# Altium integrated library NSC ADC.IntLib: 493 symbols (part 8 of 17)
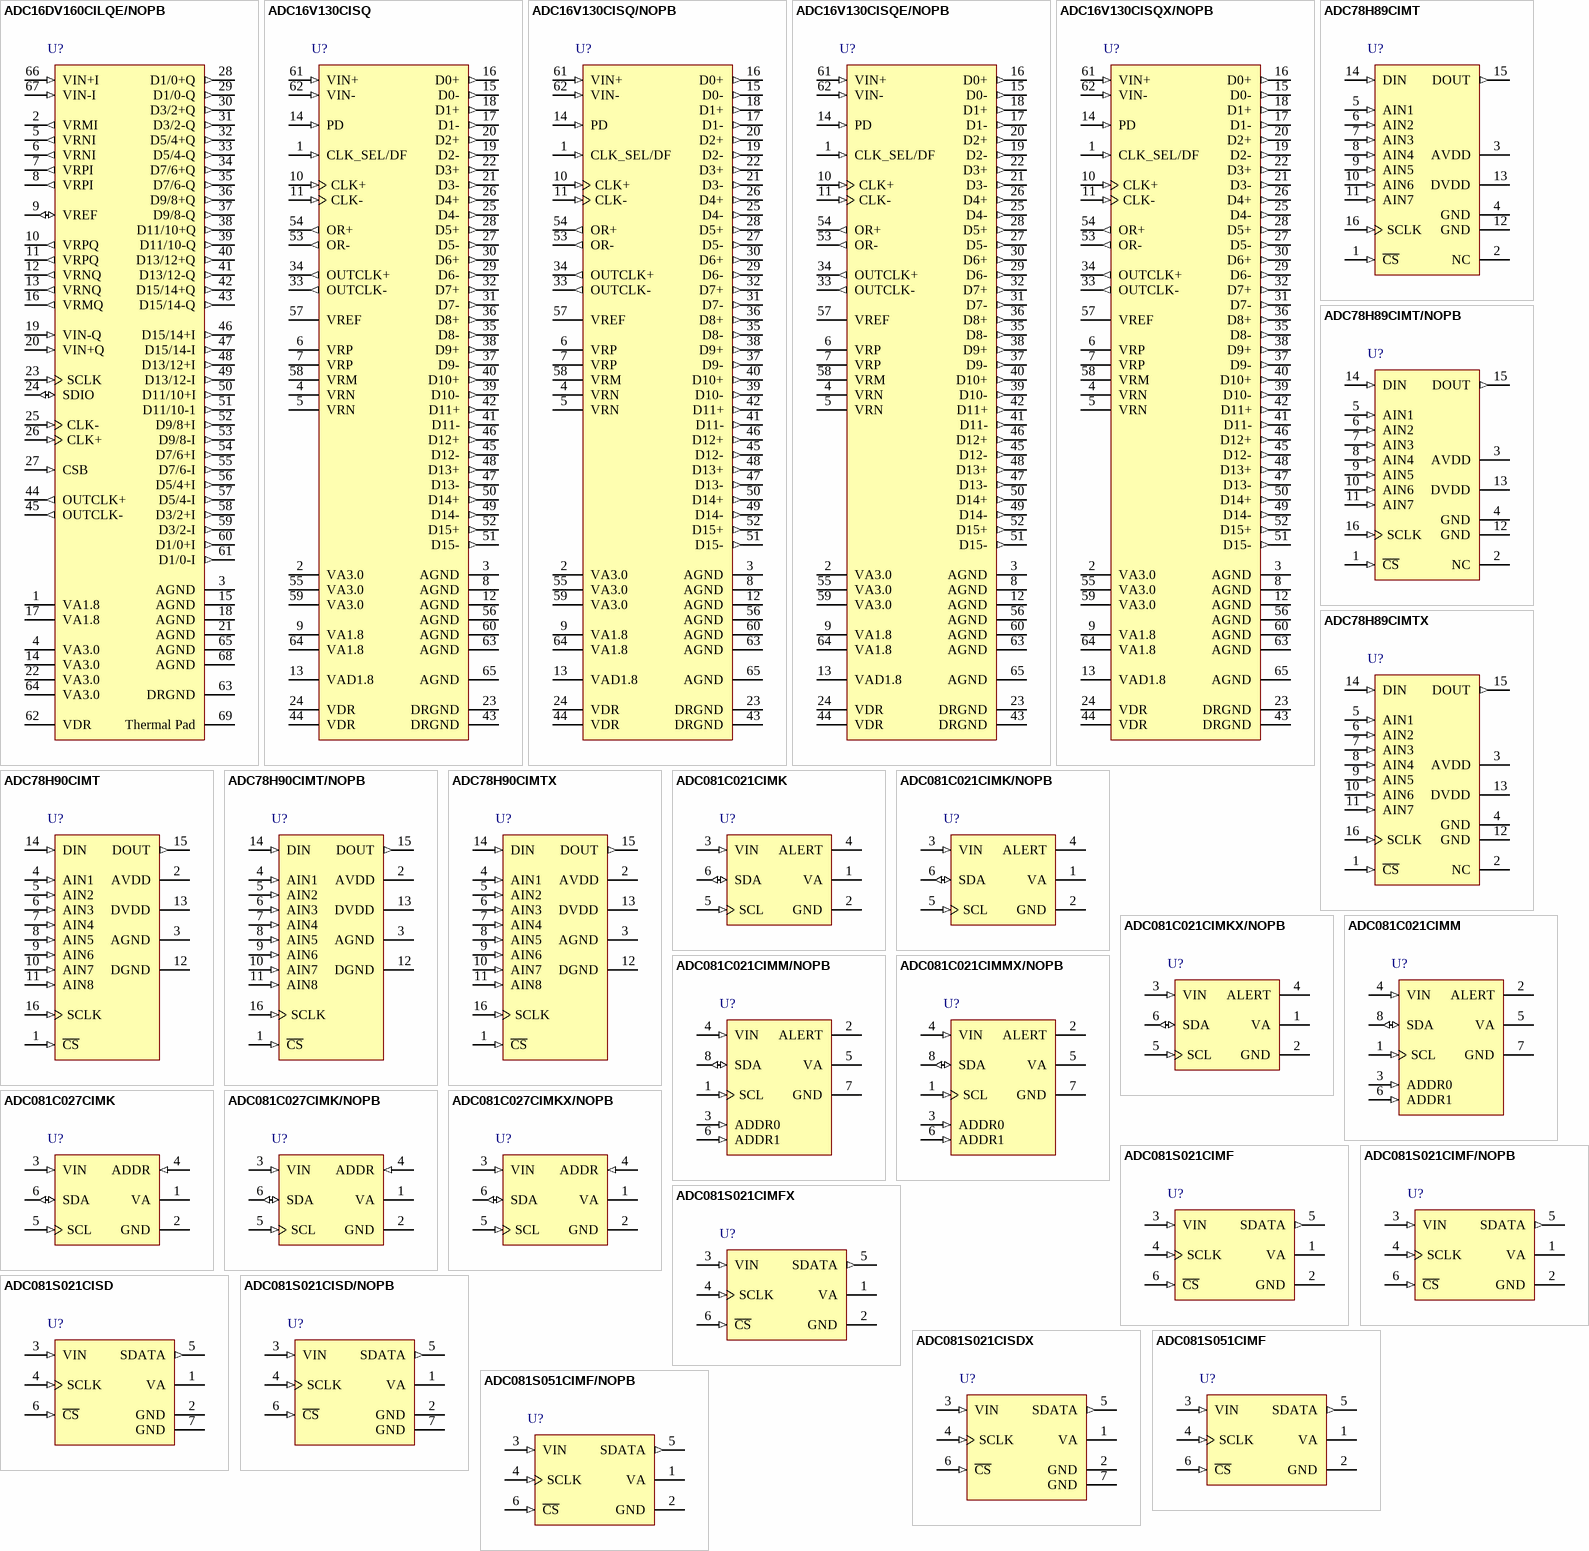
[diagram p43: symbols ADC16DV160CILQE/NOPB to ADC081S051CIMF/NOPB]

## ADC081C021CIMM/NOPB
designator U?
I2C-Compatible, 8-Bit Analog-to-Digital Converter with Alert Pin, 8-pin Mini SOIC, Pb-Free; PartNumber: ADC081C021CIMM/NOPB; Manufacturer: National Semiconductor; PackageTopMarking: ZXTT*X36C; PowerWise: N; CompType: ADC IC; Published: 1-Mar-2010; DatasheetVersion: Feb-2009; PackageVersion: revF, Apr-2008; PackageReference: MUA08A; Publisher: Altium Limited; PackageDescription: MINI SOIC, .118 x .118 x .034in, 8 Lead, .0256in Pitch; Supplier 1: Digi-Key; Supplier Part Number 1: ADC081C021CIMMTR-ND; Supplier 2: Digi-Key; Supplier Part Number 2: ADC081C021CIMMCT-ND; Supplier 3: Digi-Key; Supplier Part Number 3: ADC081C021CIMMDKR-ND; RoHS: Y; PinCount: 8; Code_JEDEC: MO-187-AA; ComponentLink1Description: ADC081C021 Datasheet; ComponentLink1URL: http://www.national.com/ds/AD/ADC081C021.pdf; ComponentLink2Description: ADC081C021 Web Page; ComponentLink2URL: http://www.national.com/pf/AD/ADC081C021.html; ComponentLink3Description: MUA08A Package Page; ComponentLink3URL: http://www.national.com/packaging/folders/mua08a.html
footprint MUA08A_N (TSOP, 8-Leads, Body 3x3mm, Pitch 0.65mm, IPC Medium Density)
footprint MUA08A_L (TSOP, 8-Leads, Body 3x3mm, Pitch 0.65mm, IPC High Density)
footprint MUA08A_M (TSOP, 8-Leads, Body 3x3mm, Pitch 0.65mm, IPC Low Density)
pins: 1 SCL (in), 2 ALERT (oc), 3 ADDR0 (in), 4 VIN (in), 5 VA (power), 6 ADDR1 (in), 7 GND (power), 8 SDA (io)

## ADC081C021CIMMX/NOPB
designator U?
I2C-Compatible, 8-Bit Analog-to-Digital Converter with Alert Pin, 8-pin Mini SOIC, Pb-Free; PartNumber: ADC081C021CIMMX/NOPB; Manufacturer: National Semiconductor; PackageTopMarking: ZXTT*X36C; PowerWise: N; CompType: ADC IC; Published: 1-Mar-2010; DatasheetVersion: Feb-2009; PackageVersion: revF, Apr-2008; PackageReference: MUA08A; Publisher: Altium Limited; PackageDescription: MINI SOIC, .118 x .118 x .034in, 8 Lead, .0256in Pitch; Supplier 1: Digi-Key; Supplier Part Number 1: ADC081C021CIMMX-ND; RoHS: Y; PinCount: 8; Code_JEDEC: MO-187-AA; ComponentLink1Description: ADC081C021 Datasheet; ComponentLink1URL: http://www.national.com/ds/AD/ADC081C021.pdf; ComponentLink2Description: ADC081C021 Web Page; ComponentLink2URL: http://www.national.com/pf/AD/ADC081C021.html; ComponentLink3Description: MUA08A Package Page; ComponentLink3URL: http://www.national.com/packaging/folders/mua08a.html
footprint MUA08A_N (TSOP, 8-Leads, Body 3x3mm, Pitch 0.65mm, IPC Medium Density)
footprint MUA08A_L (TSOP, 8-Leads, Body 3x3mm, Pitch 0.65mm, IPC High Density)
footprint MUA08A_M (TSOP, 8-Leads, Body 3x3mm, Pitch 0.65mm, IPC Low Density)
pins: 1 SCL (in), 2 ALERT (oc), 3 ADDR0 (in), 4 VIN (in), 5 VA (power), 6 ADDR1 (in), 7 GND (power), 8 SDA (io)

## ADC081C027CIMK
designator U?
I2C-Compatible, 8-Bit Analog-to-Digital Converter (ADC) with Alert Function, 6-pin Tiny SOT23; PartNumber: ADC081C027CIMK; Manufacturer: National Semiconductor; PackageTopMarking: X35C*XTT; PowerWise: N; CompType: ADC IC; Published: 4-Dec-2008; DatasheetVersion: Feb-2008; PackageVersion: revE, Nov-2008; PackageReference: MK06A; Publisher: Altium Limited; PackageDescription: Molded TSOT, 2.97 x 1.65 x 0.87mm Body, 6 Lead, 0.95mm Pitch; RoHS: Y; PinCount: 6; Code_JEDEC: MO-193-AA; Code_IPC: SOT26A-6; ComponentLink1Description: ADC081C027 Datasheet; ComponentLink1URL: http://www.national.com/ds/AD/ADC081C027.pdf; ComponentLink2Description: ADC081C027 Web Page; ComponentLink2URL: http://www.national.com/pf/AD/ADC081C027.html; ComponentLink3Description: MK06A Package Page; ComponentLink3URL: http://www.national.com/packaging/folders/mk06a.html
footprint MK06A_N (SOT23, 6-Leads, Body 3.0x1.7mm, Pitch 0.95mm, Lead Span 2.9mm, IPC Medium Density)
footprint MK06A_L (SOT23, 6-Leads, Body 3.0x1.7mm, Pitch 0.95mm, Lead Span 2.9mm, IPC High Density)
footprint MK06A_M (SOT23, 6-Leads, Body 3.0x1.7mm, Pitch 0.95mm, Lead Span 2.9mm, IPC Low Density)
pins: 1 VA (power), 2 GND (power), 3 VIN (in), 4 ADDR (in), 5 SCL (in), 6 SDA (io)

## ADC081C027CIMK/NOPB
designator U?
I2C-Compatible, 8-Bit Analog-to-Digital Converter with Alert Function, 6-pin Tiny SOT23, Pb-Free; PartNumber: ADC081C027CIMK/NOPB; Manufacturer: National Semiconductor; PackageTopMarking: X35C*XTT; PowerWise: N; CompType: ADC IC; Published: 1-Mar-2010; DatasheetVersion: Feb-2008; PackageVersion: revE, Nov-2008; PackageReference: MK06A; Publisher: Altium Limited; PackageDescription: Molded TSOT, 2.97 x 1.65 x 0.87mm Body, 6 Lead, 0.95mm Pitch; Supplier 1: Digi-Key; Supplier Part Number 1: ADC081C027CIMKTR-ND; Supplier 2: Digi-Key; Supplier Part Number 2: ADC081C027CIMKCT-ND; Supplier 3: Digi-Key; Supplier Part Number 3: ADC081C027CIMKDKR-ND; Supplier 4: Farnell; Supplier Part Number 4: 1674011; RoHS: Y; PinCount: 6; Code_JEDEC: MO-193-AA; Code_IPC: SOT26A-6; ComponentLink1Description: ADC081C027 Datasheet; ComponentLink1URL: http://www.national.com/ds/AD/ADC081C027.pdf; ComponentLink2Description: ADC081C027 Web Page; ComponentLink2URL: http://www.national.com/pf/AD/ADC081C027.html; ComponentLink3Description: MK06A Package Page; ComponentLink3URL: http://www.national.com/packaging/folders/mk06a.html
footprint MK06A_N (SOT23, 6-Leads, Body 3.0x1.7mm, Pitch 0.95mm, Lead Span 2.9mm, IPC Medium Density)
footprint MK06A_L (SOT23, 6-Leads, Body 3.0x1.7mm, Pitch 0.95mm, Lead Span 2.9mm, IPC High Density)
footprint MK06A_M (SOT23, 6-Leads, Body 3.0x1.7mm, Pitch 0.95mm, Lead Span 2.9mm, IPC Low Density)
pins: 1 VA (power), 2 GND (power), 3 VIN (in), 4 ADDR (in), 5 SCL (in), 6 SDA (io)

## ADC081C027CIMKX/NOPB
designator U?
I2C-Compatible, 8-Bit Analog-to-Digital Converter with Alert Function, 6-pin Tiny SOT23, Pb-Free; PartNumber: ADC081C027CIMKX/NOPB; Manufacturer: National Semiconductor; PackageTopMarking: X35C*XTT; PowerWise: N; CompType: ADC IC; Published: 1-Mar-2010; DatasheetVersion: Feb-2008; PackageVersion: revE, Nov-2008; PackageReference: MK06A; Publisher: Altium Limited; PackageDescription: Molded TSOT, 2.97 x 1.65 x 0.87mm Body, 6 Lead, 0.95mm Pitch; Supplier 1: Digi-Key; Supplier Part Number 1: ADC081C027CIMKX-ND; RoHS: Y; PinCount: 6; Code_JEDEC: MO-193-AA; Code_IPC: SOT26A-6; ComponentLink1Description: ADC081C027 Datasheet; ComponentLink1URL: http://www.national.com/ds/AD/ADC081C027.pdf; ComponentLink2Description: ADC081C027 Web Page; ComponentLink2URL: http://www.national.com/pf/AD/ADC081C027.html; ComponentLink3Description: MK06A Package Page; ComponentLink3URL: http://www.national.com/packaging/folders/mk06a.html
footprint MK06A_N (SOT23, 6-Leads, Body 3.0x1.7mm, Pitch 0.95mm, Lead Span 2.9mm, IPC Medium Density)
footprint MK06A_L (SOT23, 6-Leads, Body 3.0x1.7mm, Pitch 0.95mm, Lead Span 2.9mm, IPC High Density)
footprint MK06A_M (SOT23, 6-Leads, Body 3.0x1.7mm, Pitch 0.95mm, Lead Span 2.9mm, IPC Low Density)
pins: 1 VA (power), 2 GND (power), 3 VIN (in), 4 ADDR (in), 5 SCL (in), 6 SDA (io)

## ADC081S021CIMF
designator U?
Single Channel, 50 to 200 kSPS, 8-Bit A/D Converter, 6-pin SOT-23; PartNumber: ADC081S021CIMF; Manufacturer: National Semiconductor; PackageTopMarking: X09C*XTT; PowerWise: Y; CompType: ADC IC; Published: 4-Dec-2008; DatasheetVersion: Jan-2010; PackageVersion: revC, Sep-2005; PackageReference: MF06A; Publisher: Altium Limited; PackageDescription: Molded SOT-23, .115 x .063 x .040in Body, 6 Lead, .0375in in Pitch; Supplier 1: Farnell; Supplier Part Number 1: 1250030; RoHS: N; PinCount: 6; Code_JEDEC: MO-178-AB; Code_IPC: SOT26A-6; ComponentLink1Description: ADC081S021 Datasheet; ComponentLink1URL: http://www.national.com/ds/AD/ADC081S021.pdf; ComponentLink2Description: ADC081S021 Web Page; ComponentLink2URL: http://www.national.com/pf/AD/ADC081S021.html; ComponentLink3Description: MF06A Package Page; ComponentLink3URL: http://www.national.com/packaging/folders/mf06a.html
footprint MF06A_N (SOT23, 6-Leads, Body 2.9x1.6mm, Pitch 0.95mm, Lead Span 2.8mm, IPC Medium Density)
footprint MF06A_L (SOT23, 6-Leads, Body 2.9x1.6mm, Pitch 0.95mm, Lead Span 2.8mm, IPC High Density)
footprint MF06A_M (SOT23, 6-Leads, Body 2.9x1.6mm, Pitch 0.95mm, Lead Span 2.8mm, IPC Low Density)
pins: 1 VA (power), 2 GND (power), 3 VIN (in), 4 SCLK (in), 5 SDATA (out), 6 ~{CS} (in)

## ADC081S021CIMF/NOPB
designator U?
Single Channel, 50 to 200 kSPS, 8-Bit A/D Converter, 6-pin SOT-23, Pb-Free; PartNumber: ADC081S021CIMF/NOPB; Manufacturer: National Semiconductor; PackageTopMarking: X09C*XTT; PowerWise: Y; CompType: ADC IC; Published: 1-Mar-2010; DatasheetVersion: Jan-2010; PackageVersion: revC, Sep-2005; PackageReference: MF06A; Publisher: Altium Limited; PackageDescription: Molded SOT-23, .115 x .063 x .040in Body, 6 Lead, .0375in in Pitch; Supplier 1: Digi-Key; Supplier Part Number 1: ADC081S021CIMFTR-ND; Supplier 2: Digi-Key; Supplier Part Number 2: ADC081S021CIMFCT-ND; Supplier 3: Digi-Key; Supplier Part Number 3: ADC081S021CIMFDKR-ND; Supplier 4: Farnell; Supplier Part Number 4: 1559761; RoHS: Y; PinCount: 6; Code_JEDEC: MO-178-AB; Code_IPC: SOT26A-6; ComponentLink1Description: ADC081S021 Datasheet; ComponentLink1URL: http://www.national.com/ds/AD/ADC081S021.pdf; ComponentLink2Description: ADC081S021 Web Page; ComponentLink2URL: http://www.national.com/pf/AD/ADC081S021.html; ComponentLink3Description: MF06A Package Page; ComponentLink3URL: http://www.national.com/packaging/folders/mf06a.html
footprint MF06A_N (SOT23, 6-Leads, Body 2.9x1.6mm, Pitch 0.95mm, Lead Span 2.8mm, IPC Medium Density)
footprint MF06A_L (SOT23, 6-Leads, Body 2.9x1.6mm, Pitch 0.95mm, Lead Span 2.8mm, IPC High Density)
footprint MF06A_M (SOT23, 6-Leads, Body 2.9x1.6mm, Pitch 0.95mm, Lead Span 2.8mm, IPC Low Density)
pins: 1 VA (power), 2 GND (power), 3 VIN (in), 4 SCLK (in), 5 SDATA (out), 6 ~{CS} (in)

## ADC081S021CIMFX
designator U?
Single Channel, 50 to 200 kSPS, 8-Bit A/D Converter, 6-pin SOT-23; PartNumber: ADC081S021CIMFX; Manufacturer: National Semiconductor; PackageTopMarking: X09C*XTT; PowerWise: Y; CompType: ADC IC; Published: 1-Mar-2010; DatasheetVersion: Jan-2010; PackageVersion: revC, Sep-2005; PackageReference: MF06A; Publisher: Altium Limited; PackageDescription: Molded SOT-23, .115 x .063 x .040in Body, 6 Lead, .0375in in Pitch; RoHS: N; PinCount: 6; Code_JEDEC: MO-178-AB; Code_IPC: SOT26A-6; ComponentLink1Description: ADC081S021 Datasheet; ComponentLink1URL: http://www.national.com/ds/AD/ADC081S021.pdf; ComponentLink2Description: ADC081S021 Web Page; ComponentLink2URL: http://www.national.com/pf/AD/ADC081S021.html; ComponentLink3Description: MF06A Package Page; ComponentLink3URL: http://www.national.com/packaging/folders/mf06a.html
footprint MF06A_N (SOT23, 6-Leads, Body 2.9x1.6mm, Pitch 0.95mm, Lead Span 2.8mm, IPC Medium Density)
footprint MF06A_L (SOT23, 6-Leads, Body 2.9x1.6mm, Pitch 0.95mm, Lead Span 2.8mm, IPC High Density)
footprint MF06A_M (SOT23, 6-Leads, Body 2.9x1.6mm, Pitch 0.95mm, Lead Span 2.8mm, IPC Low Density)
pins: 1 VA (power), 2 GND (power), 3 VIN (in), 4 SCLK (in), 5 SDATA (out), 6 ~{CS} (in)

## ADC081S021CISD
designator U?
Single Channel, 50 to 200 kSPS, 8-Bit A/D Converter, 7-pin LLP; PartNumber: ADC081S021CISD; Manufacturer: National Semiconductor; PackageTopMarking: XTT*X9C; PowerWise: Y; CompType: ADC IC; Published: 4-Dec-2008; DatasheetVersion: Jan-2010; PackageVersion: revA, Nov-2003; PackageReference: SDB06A; Publisher: Altium Limited; PackageDescription: LLP, Plastic, Dual, 2.2 x 2.5 x 0.8mm Body, 6 Lead, 0.65mm Pitch, No Pullback; Supplier 1: Farnell; Supplier Part Number 1: 1312525; RoHS: N; PinCount: 6; ComponentLink1Description: ADC081S021 Datasheet; ComponentLink1URL: http://www.national.com/ds/AD/ADC081S021.pdf; ComponentLink2Description: ADC081S021 Web Page; ComponentLink2URL: http://www.national.com/pf/AD/ADC081S021.html; ComponentLink3Description: SDB06A Package Page; ComponentLink3URL: http://www.national.com/packaging/folders/sdb06a.html
footprint SDB06A (SON, 6-Leads, Body 2.2x2.5mm, Pitch 0.65mm, NSC Recommended (SC-70 Land))
pins: 1 VA (power), 2 GND (power), 3 VIN (in), 4 SCLK (in), 5 SDATA (out), 6 ~{CS} (in), 7 GND (power)

## ADC081S021CISD/NOPB
designator U?
Single Channel, 50 to 200 kSPS, 8-Bit A/D Converter, 6-pin LLP, Pb-Free; PartNumber: ADC081S021CISD/NOPB; Manufacturer: National Semiconductor; PackageTopMarking: XTT*X9C; PowerWise: Y; CompType: ADC IC; Published: 1-Mar-2010; DatasheetVersion: Jan-2010; PackageVersion: revA, Nov-2003; PackageReference: SDB06A; Publisher: Altium Limited; PackageDescription: LLP, Plastic, Dual, 2.2 x 2.5 x 0.8mm Body, 6 Lead, 0.65mm Pitch, No Pullback; Supplier 1: Digi-Key; Supplier Part Number 1: ADC081S021CISDTR-ND; Supplier 2: Digi-Key; Supplier Part Number 2: ADC081S021CISDCT-ND; Supplier 3: Digi-Key; Supplier Part Number 3: ADC081S021CISDDKR-ND; RoHS: Y; PinCount: 6; ComponentLink1Description: ADC081S021 Datasheet; ComponentLink1URL: http://www.national.com/ds/AD/ADC081S021.pdf; ComponentLink2Description: ADC081S021 Web Page; ComponentLink2URL: http://www.national.com/pf/AD/ADC081S021.html; ComponentLink3Description: SDB06A Package Page; ComponentLink3URL: http://www.national.com/packaging/folders/sdb06a.html
footprint SDB06A (SON, 6-Leads, Body 2.2x2.5mm, Pitch 0.65mm, NSC Recommended (SC-70 Land))
pins: 1 VA (power), 2 GND (power), 3 VIN (in), 4 SCLK (in), 5 SDATA (out), 6 ~{CS} (in), 7 GND (power)

## ADC081S021CISDX
designator U?
Single Channel, 50 to 200 kSPS, 8-Bit A/D Converter, 6-pin LLP; PartNumber: ADC081S021CISDX; Manufacturer: National Semiconductor; PackageTopMarking: XTT*X9C; PowerWise: Y; CompType: ADC IC; Published: 1-Mar-2010; DatasheetVersion: Jan-2010; PackageVersion: revA, Nov-2003; PackageReference: SDB06A; Publisher: Altium Limited; PackageDescription: LLP, Plastic, Dual, 2.2 x 2.5 x 0.8mm Body, 6 Lead, 0.65mm Pitch, No Pullback; RoHS: N; PinCount: 6; ComponentLink1Description: ADC081S021 Datasheet; ComponentLink1URL: http://www.national.com/ds/AD/ADC081S021.pdf; ComponentLink2Description: ADC081S021 Web Page; ComponentLink2URL: http://www.national.com/pf/AD/ADC081S021.html; ComponentLink3Description: SDB06A Package Page; ComponentLink3URL: http://www.national.com/packaging/folders/sdb06a.html
footprint SDB06A (SON, 6-Leads, Body 2.2x2.5mm, Pitch 0.65mm, NSC Recommended (SC-70 Land))
pins: 1 VA (power), 2 GND (power), 3 VIN (in), 4 SCLK (in), 5 SDATA (out), 6 ~{CS} (in), 7 GND (power)

## ADC081S051CIMF
designator U?
Single Channel, 200 to 500 kSPS, 8-Bit A/D Converter, 6-pin SOT-23; PartNumber: ADC081S051CIMF; Manufacturer: National Semiconductor; PackageTopMarking: X15C*XTT; PowerWise: Y; CompType: ADC IC; Published: 4-Dec-2008; DatasheetVersion: Jan-2010; PackageVersion: revC, Sep-2005; PackageReference: MF06A; Publisher: Altium Limited; PackageDescription: Molded SOT-23, .115 x .063 x .040in Body, 6 Lead, .0375in in Pitch; Supplier 1: Farnell; Supplier Part Number 1: 1250031; RoHS: N; PinCount: 6; Code_JEDEC: MO-178-AB; Code_IPC: SOT26A-6; ComponentLink1Description: ADC081S051 Datasheet; ComponentLink1URL: http://www.national.com/ds/AD/ADC081S051.pdf; ComponentLink2Description: ADC081S051 Web Page; ComponentLink2URL: http://www.national.com/pf/AD/ADC081S051.html; ComponentLink3Description: MF06A Package Page; ComponentLink3URL: http://www.national.com/packaging/folders/mf06a.html
footprint MF06A_N (SOT23, 6-Leads, Body 2.9x1.6mm, Pitch 0.95mm, Lead Span 2.8mm, IPC Medium Density)
footprint MF06A_L (SOT23, 6-Leads, Body 2.9x1.6mm, Pitch 0.95mm, Lead Span 2.8mm, IPC High Density)
footprint MF06A_M (SOT23, 6-Leads, Body 2.9x1.6mm, Pitch 0.95mm, Lead Span 2.8mm, IPC Low Density)
pins: 1 VA (power), 2 GND (power), 3 VIN (in), 4 SCLK (in), 5 SDATA (out), 6 ~{CS} (in)

## ADC081S051CIMF/NOPB
designator U?
Single Channel, 200 to 500 kSPS, 8-Bit A/D Converter, 6-pin SOT-23, Pb-Free; PartNumber: ADC081S051CIMF/NOPB; Manufacturer: National Semiconductor; PackageTopMarking: X15C*XTT; PowerWise: Y; CompType: ADC IC; Published: 1-Mar-2010; DatasheetVersion: Jan-2010; PackageVersion: revC, Sep-2005; PackageReference: MF06A; Publisher: Altium Limited; PackageDescription: Molded SOT-23, .115 x .063 x .040in Body, 6 Lead, .0375in in Pitch; Supplier 1: Digi-Key; Supplier Part Number 1: ADC081S051CIMFTR-ND; Supplier 2: Digi-Key; Supplier Part Number 2: ADC081S051CIMFCT-ND; Supplier 3: Digi-Key; Supplier Part Number 3: ADC081S051CIMFDKR-ND; RoHS: Y; PinCount: 6; Code_JEDEC: MO-178-AB; Code_IPC: SOT26A-6; ComponentLink1Description: ADC081S051 Datasheet; ComponentLink1URL: http://www.national.com/ds/AD/ADC081S051.pdf; ComponentLink2Description: ADC081S051 Web Page; ComponentLink2URL: http://www.national.com/pf/AD/ADC081S051.html; ComponentLink3Description: MF06A Package Page; ComponentLink3URL: http://www.national.com/packaging/folders/mf06a.html
footprint MF06A_N (SOT23, 6-Leads, Body 2.9x1.6mm, Pitch 0.95mm, Lead Span 2.8mm, IPC Medium Density)
footprint MF06A_L (SOT23, 6-Leads, Body 2.9x1.6mm, Pitch 0.95mm, Lead Span 2.8mm, IPC High Density)
footprint MF06A_M (SOT23, 6-Leads, Body 2.9x1.6mm, Pitch 0.95mm, Lead Span 2.8mm, IPC Low Density)
pins: 1 VA (power), 2 GND (power), 3 VIN (in), 4 SCLK (in), 5 SDATA (out), 6 ~{CS} (in)

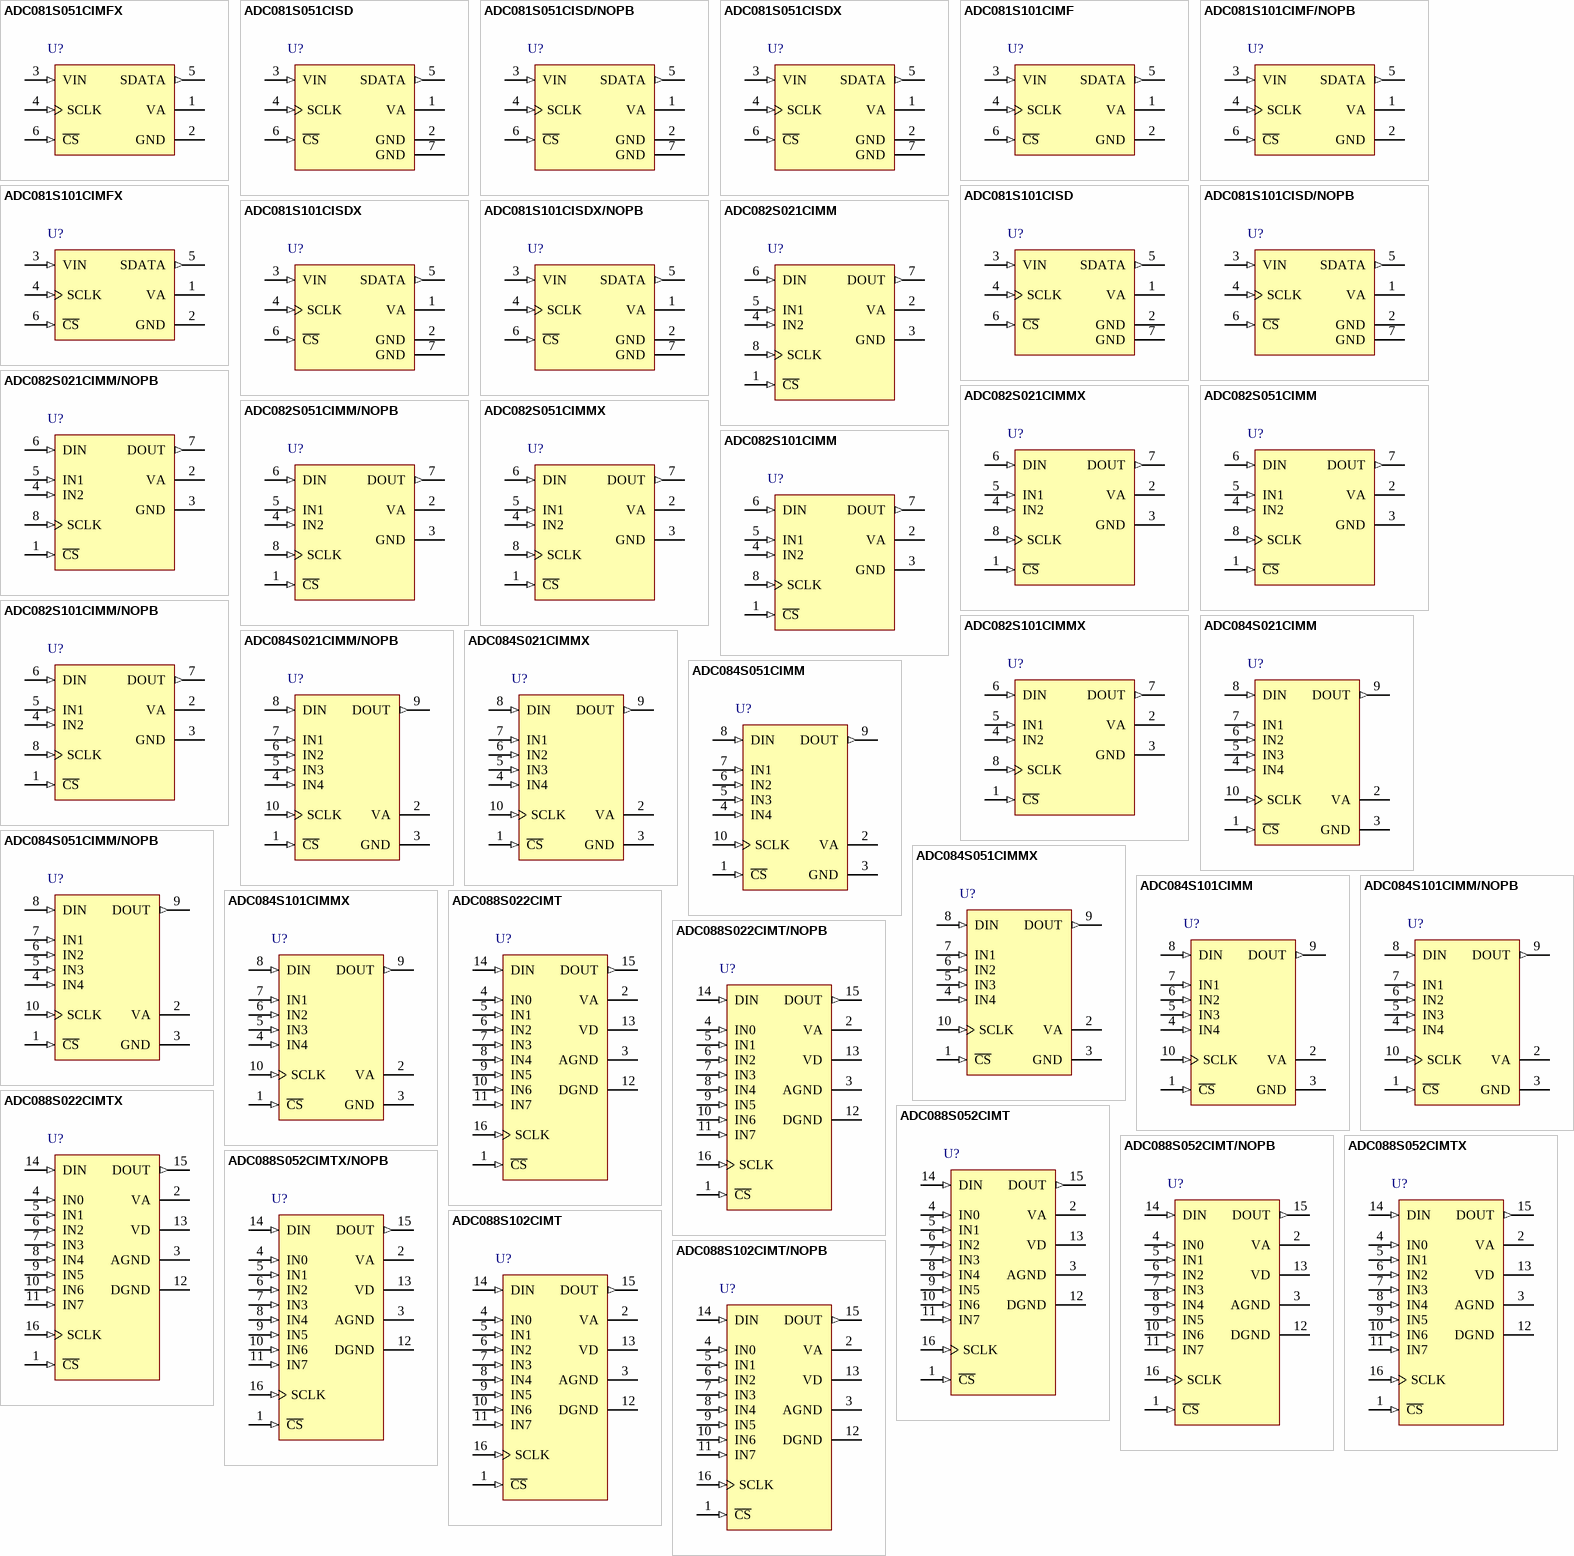
[diagram p23: symbols ADC081S051CIMFX to ADC088S102CIMT/NOPB]

## ADC081S051CIMFX
designator U?
Single Channel, 200 to 500 kSPS, 8-Bit A/D Converter, 6-pin SOT-23; PartNumber: ADC081S051CIMFX; Manufacturer: National Semiconductor; PackageTopMarking: X15C*XTT; PowerWise: Y; CompType: ADC IC; Published: 1-Mar-2010; DatasheetVersion: Jan-2010; PackageVersion: revC, Sep-2005; PackageReference: MF06A; Publisher: Altium Limited; PackageDescription: Molded SOT-23, .115 x .063 x .040in Body, 6 Lead, .0375in in Pitch; RoHS: N; PinCount: 6; Code_JEDEC: MO-178-AB; Code_IPC: SOT26A-6; ComponentLink1Description: ADC081S051 Datasheet; ComponentLink1URL: http://www.national.com/ds/AD/ADC081S051.pdf; ComponentLink2Description: ADC081S051 Web Page; ComponentLink2URL: http://www.national.com/pf/AD/ADC081S051.html; ComponentLink3Description: MF06A Package Page; ComponentLink3URL: http://www.national.com/packaging/folders/mf06a.html
footprint MF06A_N (SOT23, 6-Leads, Body 2.9x1.6mm, Pitch 0.95mm, Lead Span 2.8mm, IPC Medium Density)
footprint MF06A_L (SOT23, 6-Leads, Body 2.9x1.6mm, Pitch 0.95mm, Lead Span 2.8mm, IPC High Density)
footprint MF06A_M (SOT23, 6-Leads, Body 2.9x1.6mm, Pitch 0.95mm, Lead Span 2.8mm, IPC Low Density)
pins: 1 VA (power), 2 GND (power), 3 VIN (in), 4 SCLK (in), 5 SDATA (out), 6 ~{CS} (in)

## ADC081S051CISD
designator U?
Single Channel, 200 to 500 kSPS, 8-Bit A/D Converter, 7-pin LLP; PartNumber: ADC081S051CISD; Manufacturer: National Semiconductor; PackageTopMarking: XTT*X6C; PowerWise: Y; CompType: ADC IC; Published: 4-Dec-2008; DatasheetVersion: Jan-2010; PackageVersion: revA, Nov-2003; PackageReference: SDB06A; Publisher: Altium Limited; PackageDescription: LLP, Plastic, Dual, 2.2 x 2.5 x 0.8mm Body, 6 Lead, 0.65mm Pitch, No Pullback; Supplier 1: Farnell; Supplier Part Number 1: 1312526; RoHS: N; PinCount: 6; ComponentLink1Description: ADC081S051 Datasheet; ComponentLink1URL: http://www.national.com/ds/AD/ADC081S051.pdf; ComponentLink2Description: ADC081S051 Web Page; ComponentLink2URL: http://www.national.com/pf/AD/ADC081S051.html; ComponentLink3Description: SDB06A Package Page; ComponentLink3URL: http://www.national.com/packaging/folders/sdb06a.html
footprint SDB06A (SON, 6-Leads, Body 2.2x2.5mm, Pitch 0.65mm, NSC Recommended (SC-70 Land))
pins: 1 VA (power), 2 GND (power), 3 VIN (in), 4 SCLK (in), 5 SDATA (out), 6 ~{CS} (in), 7 GND (power)

## ADC081S051CISD/NOPB
designator U?
Single Channel, 200 to 500 kSPS, 8-Bit A/D Converter, 6-pin LLP, Pb-Free; PartNumber: ADC081S051CISD/NOPB; Manufacturer: National Semiconductor; PackageTopMarking: XTT*X6C; PowerWise: Y; CompType: ADC IC; Published: 1-Mar-2010; DatasheetVersion: Jan-2010; PackageVersion: revA, Nov-2003; PackageReference: SDB06A; Publisher: Altium Limited; PackageDescription: LLP, Plastic, Dual, 2.2 x 2.5 x 0.8mm Body, 6 Lead, 0.65mm Pitch, No Pullback; Supplier 1: Digi-Key; Supplier Part Number 1: ADC081S051CISDTR-ND; Supplier 2: Digi-Key; Supplier Part Number 2: ADC081S051CISDCT-ND; Supplier 3: Digi-Key; Supplier Part Number 3: ADC081S051CISDDKR-ND; RoHS: Y; PinCount: 6; ComponentLink1Description: ADC081S051 Datasheet; ComponentLink1URL: http://www.national.com/ds/AD/ADC081S051.pdf; ComponentLink2Description: ADC081S051 Web Page; ComponentLink2URL: http://www.national.com/pf/AD/ADC081S051.html; ComponentLink3Description: SDB06A Package Page; ComponentLink3URL: http://www.national.com/packaging/folders/sdb06a.html
footprint SDB06A (SON, 6-Leads, Body 2.2x2.5mm, Pitch 0.65mm, NSC Recommended (SC-70 Land))
pins: 1 VA (power), 2 GND (power), 3 VIN (in), 4 SCLK (in), 5 SDATA (out), 6 ~{CS} (in), 7 GND (power)

## ADC081S051CISDX
designator U?
Single Channel, 200 to 500 kSPS, 8-Bit A/D Converter, 6-pin LLP; PartNumber: ADC081S051CISDX; Manufacturer: National Semiconductor; PackageTopMarking: XTT*X6C; PowerWise: Y; CompType: ADC IC; Published: 1-Mar-2010; DatasheetVersion: Jan-2010; PackageVersion: revA, Nov-2003; PackageReference: SDB06A; Publisher: Altium Limited; PackageDescription: LLP, Plastic, Dual, 2.2 x 2.5 x 0.8mm Body, 6 Lead, 0.65mm Pitch, No Pullback; RoHS: N; PinCount: 6; ComponentLink1Description: ADC081S051 Datasheet; ComponentLink1URL: http://www.national.com/ds/AD/ADC081S051.pdf; ComponentLink2Description: ADC081S051 Web Page; ComponentLink2URL: http://www.national.com/pf/AD/ADC081S051.html; ComponentLink3Description: SDB06A Package Page; ComponentLink3URL: http://www.national.com/packaging/folders/sdb06a.html
footprint SDB06A (SON, 6-Leads, Body 2.2x2.5mm, Pitch 0.65mm, NSC Recommended (SC-70 Land))
pins: 1 VA (power), 2 GND (power), 3 VIN (in), 4 SCLK (in), 5 SDATA (out), 6 ~{CS} (in), 7 GND (power)

## ADC081S101CIMF
designator U?
1MSPS, 8-Bit A/D Converter, 6-pin SOT-23; PartNumber: ADC081S101CIMF; Manufacturer: National Semiconductor; PackageTopMarking: X03C*XTT; PowerWise: Y; CompType: ADC IC; Published: 4-Dec-2008; DatasheetVersion: Feb-2010; PackageVersion: revC, Sep-2005; PackageReference: MF06A; Publisher: Altium Limited; PackageDescription: Molded SOT-23, .115 x .063 x .040in Body, 6 Lead, .0375in in Pitch; Supplier 1: Farnell; Supplier Part Number 1: 1007977; RoHS: N; PinCount: 6; Code_JEDEC: MO-178-AB; Code_IPC: SOT26A-6; ComponentLink1Description: ADC081S101 Datasheet; ComponentLink1URL: http://www.national.com/ds/AD/ADC081S101.pdf; ComponentLink2Description: ADC081S101 Web Page; ComponentLink2URL: http://www.national.com/pf/AD/ADC081S101.html; ComponentLink3Description: MF06A Package Page; ComponentLink3URL: http://www.national.com/packaging/folders/mf06a.html
footprint MF06A_N (SOT23, 6-Leads, Body 2.9x1.6mm, Pitch 0.95mm, Lead Span 2.8mm, IPC Medium Density)
footprint MF06A_L (SOT23, 6-Leads, Body 2.9x1.6mm, Pitch 0.95mm, Lead Span 2.8mm, IPC High Density)
footprint MF06A_M (SOT23, 6-Leads, Body 2.9x1.6mm, Pitch 0.95mm, Lead Span 2.8mm, IPC Low Density)
pins: 1 VA (power), 2 GND (power), 3 VIN (in), 4 SCLK (in), 5 SDATA (out), 6 ~{CS} (in)

## ADC081S101CIMF/NOPB
designator U?
1MSPS, 8-Bit A/D Converter in 6-pin SOT-23, Pb-Free; PartNumber: ADC081S101CIMF/NOPB; Manufacturer: National Semiconductor; PackageTopMarking: X03C*XTT; PowerWise: Y; CompType: ADC IC; Published: 1-Mar-2010; DatasheetVersion: Feb-2010; PackageVersion: revC, Sep-2005; PackageReference: MF06A; Publisher: Altium Limited; PackageDescription: Molded SOT-23, .115 x .063 x .040in Body, 6 Lead, .0375in in Pitch; Supplier 1: Digi-Key; Supplier Part Number 1: ADC081S101CIMFTR-ND; Supplier 2: Digi-Key; Supplier Part Number 2: ADC081S101CIMFCT-ND; Supplier 3: Digi-Key; Supplier Part Number 3: ADC081S101CIMFDKR-ND; Supplier 4: Farnell; Supplier Part Number 4: 1149927; RoHS: Y; PinCount: 6; Code_JEDEC: MO-178-AB; Code_IPC: SOT26A-6; ComponentLink1Description: ADC081S101 Datasheet; ComponentLink1URL: http://www.national.com/ds/AD/ADC081S101.pdf; ComponentLink2Description: ADC081S101 Web Page; ComponentLink2URL: http://www.national.com/pf/AD/ADC081S101.html; ComponentLink3Description: MF06A Package Page; ComponentLink3URL: http://www.national.com/packaging/folders/mf06a.html
footprint MF06A_N (SOT23, 6-Leads, Body 2.9x1.6mm, Pitch 0.95mm, Lead Span 2.8mm, IPC Medium Density)
footprint MF06A_L (SOT23, 6-Leads, Body 2.9x1.6mm, Pitch 0.95mm, Lead Span 2.8mm, IPC High Density)
footprint MF06A_M (SOT23, 6-Leads, Body 2.9x1.6mm, Pitch 0.95mm, Lead Span 2.8mm, IPC Low Density)
pins: 1 VA (power), 2 GND (power), 3 VIN (in), 4 SCLK (in), 5 SDATA (out), 6 ~{CS} (in)

## ADC081S101CIMFX
designator U?
1MSPS, 8-Bit A/D Converter in 6-pin SOT-23; PartNumber: ADC081S101CIMFX; Manufacturer: National Semiconductor; PackageTopMarking: X03C*XTT; PowerWise: Y; CompType: ADC IC; Published: 1-Mar-2010; DatasheetVersion: Feb-2010; PackageVersion: revC, Sep-2005; PackageReference: MF06A; Publisher: Altium Limited; PackageDescription: Molded SOT-23, .115 x .063 x .040in Body, 6 Lead, .0375in in Pitch; RoHS: N; PinCount: 6; Code_JEDEC: MO-178-AB; Code_IPC: SOT26A-6; ComponentLink1Description: ADC081S101 Datasheet; ComponentLink1URL: http://www.national.com/ds/AD/ADC081S101.pdf; ComponentLink2Description: ADC081S101 Web Page; ComponentLink2URL: http://www.national.com/pf/AD/ADC081S101.html; ComponentLink3Description: MF06A Package Page; ComponentLink3URL: http://www.national.com/packaging/folders/mf06a.html
footprint MF06A_N (SOT23, 6-Leads, Body 2.9x1.6mm, Pitch 0.95mm, Lead Span 2.8mm, IPC Medium Density)
footprint MF06A_L (SOT23, 6-Leads, Body 2.9x1.6mm, Pitch 0.95mm, Lead Span 2.8mm, IPC High Density)
footprint MF06A_M (SOT23, 6-Leads, Body 2.9x1.6mm, Pitch 0.95mm, Lead Span 2.8mm, IPC Low Density)
pins: 1 VA (power), 2 GND (power), 3 VIN (in), 4 SCLK (in), 5 SDATA (out), 6 ~{CS} (in)

## ADC081S101CISD
designator U?
1MSPS, 8-Bit A/D Converter, 7-pin LLP; PartNumber: ADC081S101CISD; Manufacturer: National Semiconductor; PackageTopMarking: XTT*X3C; PowerWise: Y; CompType: ADC IC; Published: 4-Dec-2008; DatasheetVersion: Feb-2010; PackageVersion: revA, Nov-2003; PackageReference: SDB06A; Publisher: Altium Limited; PackageDescription: LLP, Plastic, Dual, 2.2 x 2.5 x 0.8mm Body, 6 Lead, 0.65mm Pitch, No Pullback; Supplier 1: Farnell; Supplier Part Number 1: 1312527; RoHS: N; PinCount: 6; ComponentLink1Description: ADC081S101 Datasheet; ComponentLink1URL: http://www.national.com/ds/AD/ADC081S101.pdf; ComponentLink2Description: ADC081S101 Web Page; ComponentLink2URL: http://www.national.com/pf/AD/ADC081S101.html; ComponentLink3Description: SDB06A Package Page; ComponentLink3URL: http://www.national.com/packaging/folders/sdb06a.html
footprint SDB06A (SON, 6-Leads, Body 2.2x2.5mm, Pitch 0.65mm, NSC Recommended (SC-70 Land))
pins: 1 VA (power), 2 GND (power), 3 VIN (in), 4 SCLK (in), 5 SDATA (out), 6 ~{CS} (in), 7 GND (power)

## ADC081S101CISD/NOPB
designator U?
1MSPS, 8-Bit A/D Converter in 6-pin LLP, Pb-Free; PartNumber: ADC081S101CISD/NOPB; Manufacturer: National Semiconductor; PackageTopMarking: XTT*X3C; PowerWise: Y; CompType: ADC IC; Published: 1-Mar-2010; DatasheetVersion: Feb-2010; PackageVersion: revA, Nov-2003; PackageReference: SDB06A; Publisher: Altium Limited; PackageDescription: LLP, Plastic, Dual, 2.2 x 2.5 x 0.8mm Body, 6 Lead, 0.65mm Pitch, No Pullback; Supplier 1: Digi-Key; Supplier Part Number 1: ADC081S101CISDTR-ND; Supplier 2: Digi-Key; Supplier Part Number 2: ADC081S101CISDCT-ND; Supplier 3: Digi-Key; Supplier Part Number 3: ADC081S101CISDDKR-ND; RoHS: Y; PinCount: 6; ComponentLink1Description: ADC081S101 Datasheet; ComponentLink1URL: http://www.national.com/ds/AD/ADC081S101.pdf; ComponentLink2Description: ADC081S101 Web Page; ComponentLink2URL: http://www.national.com/pf/AD/ADC081S101.html; ComponentLink3Description: SDB06A Package Page; ComponentLink3URL: http://www.national.com/packaging/folders/sdb06a.html
footprint SDB06A (SON, 6-Leads, Body 2.2x2.5mm, Pitch 0.65mm, NSC Recommended (SC-70 Land))
pins: 1 VA (power), 2 GND (power), 3 VIN (in), 4 SCLK (in), 5 SDATA (out), 6 ~{CS} (in), 7 GND (power)

## ADC081S101CISDX
designator U?
1MSPS, 8-Bit A/D Converter in 6-pin LLP; PartNumber: ADC081S101CISDX; Manufacturer: National Semiconductor; PackageTopMarking: XTT*X3C; PowerWise: Y; CompType: ADC IC; Published: 1-Mar-2010; DatasheetVersion: Feb-2010; PackageVersion: revA, Nov-2003; PackageReference: SDB06A; Publisher: Altium Limited; PackageDescription: LLP, Plastic, Dual, 2.2 x 2.5 x 0.8mm Body, 6 Lead, 0.65mm Pitch, No Pullback; RoHS: N; PinCount: 6; ComponentLink1Description: ADC081S101 Datasheet; ComponentLink1URL: http://www.national.com/ds/AD/ADC081S101.pdf; ComponentLink2Description: ADC081S101 Web Page; ComponentLink2URL: http://www.national.com/pf/AD/ADC081S101.html; ComponentLink3Description: SDB06A Package Page; ComponentLink3URL: http://www.national.com/packaging/folders/sdb06a.html
footprint SDB06A (SON, 6-Leads, Body 2.2x2.5mm, Pitch 0.65mm, NSC Recommended (SC-70 Land))
pins: 1 VA (power), 2 GND (power), 3 VIN (in), 4 SCLK (in), 5 SDATA (out), 6 ~{CS} (in), 7 GND (power)

## ADC081S101CISDX/NOPB
designator U?
1MSPS, 8-Bit A/D Converter in 6-pin LLP, Pb-Free; PartNumber: ADC081S101CISDX/NOPB; Manufacturer: National Semiconductor; PackageTopMarking: XTT*X3C; PowerWise: Y; CompType: ADC IC; Published: 1-Mar-2010; DatasheetVersion: Feb-2010; PackageVersion: revA, Nov-2003; PackageReference: SDB06A; Publisher: Altium Limited; PackageDescription: LLP, Plastic, Dual, 2.2 x 2.5 x 0.8mm Body, 6 Lead, 0.65mm Pitch, No Pullback; Supplier 1: Digi-Key; Supplier Part Number 1: ADC081S101CISDX-ND; RoHS: Y; PinCount: 6; ComponentLink1Description: ADC081S101 Datasheet; ComponentLink1URL: http://www.national.com/ds/AD/ADC081S101.pdf; ComponentLink2Description: ADC081S101 Web Page; ComponentLink2URL: http://www.national.com/pf/AD/ADC081S101.html; ComponentLink3Description: SDB06A Package Page; ComponentLink3URL: http://www.national.com/packaging/folders/sdb06a.html
footprint SDB06A (SON, 6-Leads, Body 2.2x2.5mm, Pitch 0.65mm, NSC Recommended (SC-70 Land))
pins: 1 VA (power), 2 GND (power), 3 VIN (in), 4 SCLK (in), 5 SDATA (out), 6 ~{CS} (in), 7 GND (power)

## ADC082S021CIMM
designator U?
2 Channel, 200 kSPS, 8-Bit A/D Converter, 8-pin Mini SOIC; PartNumber: ADC082S021CIMM; Manufacturer: National Semiconductor; PackageTopMarking: ZXTT*X16C; PowerWise: Y; CompType: ADC IC; Published: 4-Dec-2008; DatasheetVersion: Apr-2005; PackageVersion: revF, Apr-2008; PackageReference: MUA08A; Publisher: Altium Limited; PackageDescription: MINI SOIC, .118 x .118 x .034in, 8 Lead, .0256in Pitch; Supplier 1: Farnell; Supplier Part Number 1: 1007978; RoHS: N; PinCount: 8; Code_JEDEC: MO-187-AA; ComponentLink1Description: ADC082S021 Datasheet; ComponentLink1URL: http://www.national.com/ds/AD/ADC082S021.pdf; ComponentLink2Description: ADC082S021 Web Page; ComponentLink2URL: http://www.national.com/pf/AD/ADC082S021.html; ComponentLink3Description: MUA08A Package Page; ComponentLink3URL: http://www.national.com/packaging/folders/mua08a.html
footprint MUA08A_N (TSOP, 8-Leads, Body 3x3mm, Pitch 0.65mm, IPC Medium Density)
footprint MUA08A_L (TSOP, 8-Leads, Body 3x3mm, Pitch 0.65mm, IPC High Density)
footprint MUA08A_M (TSOP, 8-Leads, Body 3x3mm, Pitch 0.65mm, IPC Low Density)
pins: 1 ~{CS} (in), 2 VA (power), 3 GND (power), 4 IN2 (in), 5 IN1 (in), 6 DIN (in), 7 DOUT (out), 8 SCLK (in)

## ADC082S021CIMM/NOPB
designator U?
2 Channel, 50 kSPS to 200 kSPS, 8-Bit A/D Converter, 8-pin Mini SOIC, Pb-Free; PartNumber: ADC082S021CIMM/NOPB; Manufacturer: National Semiconductor; PackageTopMarking: ZXTT*X16C; PowerWise: Y; CompType: ADC IC; Published: 1-Mar-2010; DatasheetVersion: Apr-2005; PackageVersion: revF, Apr-2008; PackageReference: MUA08A; Publisher: Altium Limited; PackageDescription: MINI SOIC, .118 x .118 x .034in, 8 Lead, .0256in Pitch; Supplier 1: Digi-Key; Supplier Part Number 1: ADC082S021CIMMTR-ND; Supplier 2: Digi-Key; Supplier Part Number 2: ADC082S021CIMMCT-ND; Supplier 3: Digi-Key; Supplier Part Number 3: ADC082S021CIMMDKR-ND; Supplier 4: Farnell; Supplier Part Number 4: 1559288; RoHS: Y; PinCount: 8; Code_JEDEC: MO-187-AA; ComponentLink1Description: ADC082S021 Datasheet; ComponentLink1URL: http://www.national.com/ds/AD/ADC082S021.pdf; ComponentLink2Description: ADC082S021 Web Page; ComponentLink2URL: http://www.national.com/pf/AD/ADC082S021.html; ComponentLink3Description: MUA08A Package Page; ComponentLink3URL: http://www.national.com/packaging/folders/mua08a.html
footprint MUA08A_N (TSOP, 8-Leads, Body 3x3mm, Pitch 0.65mm, IPC Medium Density)
footprint MUA08A_L (TSOP, 8-Leads, Body 3x3mm, Pitch 0.65mm, IPC High Density)
footprint MUA08A_M (TSOP, 8-Leads, Body 3x3mm, Pitch 0.65mm, IPC Low Density)
pins: 1 ~{CS} (in), 2 VA (power), 3 GND (power), 4 IN2 (in), 5 IN1 (in), 6 DIN (in), 7 DOUT (out), 8 SCLK (in)

## ADC082S021CIMMX
designator U?
2 Channel, 50 kSPS to 200 kSPS, 8-Bit A/D Converter, 8-pin Mini SOIC; PartNumber: ADC082S021CIMMX; Manufacturer: National Semiconductor; PackageTopMarking: ZXTT*X16C; PowerWise: Y; CompType: ADC IC; Published: 1-Mar-2010; DatasheetVersion: Apr-2005; PackageVersion: revF, Apr-2008; PackageReference: MUA08A; Publisher: Altium Limited; PackageDescription: MINI SOIC, .118 x .118 x .034in, 8 Lead, .0256in Pitch; RoHS: N; PinCount: 8; Code_JEDEC: MO-187-AA; ComponentLink1Description: ADC082S021 Datasheet; ComponentLink1URL: http://www.national.com/ds/AD/ADC082S021.pdf; ComponentLink2Description: ADC082S021 Web Page; ComponentLink2URL: http://www.national.com/pf/AD/ADC082S021.html; ComponentLink3Description: MUA08A Package Page; ComponentLink3URL: http://www.national.com/packaging/folders/mua08a.html
footprint MUA08A_N (TSOP, 8-Leads, Body 3x3mm, Pitch 0.65mm, IPC Medium Density)
footprint MUA08A_L (TSOP, 8-Leads, Body 3x3mm, Pitch 0.65mm, IPC High Density)
footprint MUA08A_M (TSOP, 8-Leads, Body 3x3mm, Pitch 0.65mm, IPC Low Density)
pins: 1 ~{CS} (in), 2 VA (power), 3 GND (power), 4 IN2 (in), 5 IN1 (in), 6 DIN (in), 7 DOUT (out), 8 SCLK (in)

## ADC082S051CIMM
designator U?
2 Channel, 500 kSPS, 8-Bit A/D Converter, 8-pin Mini SOIC; PartNumber: ADC082S051CIMM; Manufacturer: National Semiconductor; PackageTopMarking: ZXTT*X04C; PowerWise: Y; CompType: ADC IC; Published: 4-Dec-2008; DatasheetVersion: Feb-2010; PackageVersion: revF, Apr-2008; PackageReference: MUA08A; Publisher: Altium Limited; PackageDescription: MINI SOIC, .118 x .118 x .034in, 8 Lead, .0256in Pitch; Supplier 1: Farnell; Supplier Part Number 1: 1007979; RoHS: N; PinCount: 8; Code_JEDEC: MO-187-AA; ComponentLink1Description: ADC082S051 Datasheet; ComponentLink1URL: http://www.national.com/ds/AD/ADC082S051.pdf; ComponentLink2Description: ADC082S051 Web Page; ComponentLink2URL: http://www.national.com/pf/AD/ADC082S051.html; ComponentLink3Description: MUA08A Package Page; ComponentLink3URL: http://www.national.com/packaging/folders/mua08a.html
footprint MUA08A_N (TSOP, 8-Leads, Body 3x3mm, Pitch 0.65mm, IPC Medium Density)
footprint MUA08A_L (TSOP, 8-Leads, Body 3x3mm, Pitch 0.65mm, IPC High Density)
footprint MUA08A_M (TSOP, 8-Leads, Body 3x3mm, Pitch 0.65mm, IPC Low Density)
pins: 1 ~{CS} (in), 2 VA (power), 3 GND (power), 4 IN2 (in), 5 IN1 (in), 6 DIN (in), 7 DOUT (out), 8 SCLK (in)

## ADC082S051CIMM/NOPB
designator U?
2 Channel, 200 kSPS to 500 kSPS, 8-Bit A/D Converter, 8-pin Mini SOIC, Pb-Free; PartNumber: ADC082S051CIMM/NOPB; Manufacturer: National Semiconductor; PackageTopMarking: ZXTT*X04C; PowerWise: Y; CompType: ADC IC; Published: 1-Mar-2010; DatasheetVersion: Feb-2010; PackageVersion: revF, Apr-2008; PackageReference: MUA08A; Publisher: Altium Limited; PackageDescription: MINI SOIC, .118 x .118 x .034in, 8 Lead, .0256in Pitch; Supplier 1: Digi-Key; Supplier Part Number 1: ADC082S051CIMMTR-ND; Supplier 2: Digi-Key; Supplier Part Number 2: ADC082S051CIMMCT-ND; Supplier 3: Digi-Key; Supplier Part Number 3: ADC082S051CIMMDKR-ND; RoHS: Y; PinCount: 8; Code_JEDEC: MO-187-AA; ComponentLink1Description: ADC082S051 Datasheet; ComponentLink1URL: http://www.national.com/ds/AD/ADC082S051.pdf; ComponentLink2Description: ADC082S051 Web Page; ComponentLink2URL: http://www.national.com/pf/AD/ADC082S051.html; ComponentLink3Description: MUA08A Package Page; ComponentLink3URL: http://www.national.com/packaging/folders/mua08a.html
footprint MUA08A_N (TSOP, 8-Leads, Body 3x3mm, Pitch 0.65mm, IPC Medium Density)
footprint MUA08A_L (TSOP, 8-Leads, Body 3x3mm, Pitch 0.65mm, IPC High Density)
footprint MUA08A_M (TSOP, 8-Leads, Body 3x3mm, Pitch 0.65mm, IPC Low Density)
pins: 1 ~{CS} (in), 2 VA (power), 3 GND (power), 4 IN2 (in), 5 IN1 (in), 6 DIN (in), 7 DOUT (out), 8 SCLK (in)

## ADC082S051CIMMX
designator U?
2 Channel, 200 kSPS to 500 kSPS, 8-Bit A/D Converter, 8-pin Mini SOIC; PartNumber: ADC082S051CIMMX; Manufacturer: National Semiconductor; PackageTopMarking: ZXTT*X04C; PowerWise: Y; CompType: ADC IC; Published: 1-Mar-2010; DatasheetVersion: Feb-2010; PackageVersion: revF, Apr-2008; PackageReference: MUA08A; Publisher: Altium Limited; PackageDescription: MINI SOIC, .118 x .118 x .034in, 8 Lead, .0256in Pitch; RoHS: N; PinCount: 8; Code_JEDEC: MO-187-AA; ComponentLink1Description: ADC082S051 Datasheet; ComponentLink1URL: http://www.national.com/ds/AD/ADC082S051.pdf; ComponentLink2Description: ADC082S051 Web Page; ComponentLink2URL: http://www.national.com/pf/AD/ADC082S051.html; ComponentLink3Description: MUA08A Package Page; ComponentLink3URL: http://www.national.com/packaging/folders/mua08a.html
footprint MUA08A_N (TSOP, 8-Leads, Body 3x3mm, Pitch 0.65mm, IPC Medium Density)
footprint MUA08A_L (TSOP, 8-Leads, Body 3x3mm, Pitch 0.65mm, IPC High Density)
footprint MUA08A_M (TSOP, 8-Leads, Body 3x3mm, Pitch 0.65mm, IPC Low Density)
pins: 1 ~{CS} (in), 2 VA (power), 3 GND (power), 4 IN2 (in), 5 IN1 (in), 6 DIN (in), 7 DOUT (out), 8 SCLK (in)

## ADC082S101CIMM
designator U?
2 Channel, 1 MSPS, 8-Bit A/D Converter, 8-pin Mini SOIC; PartNumber: ADC082S101CIMM; Manufacturer: National Semiconductor; PackageTopMarking: ZXTT*X22C; PowerWise: Y; CompType: ADC IC; Published: 4-Dec-2008; DatasheetVersion: Feb-2010; PackageVersion: revF, Apr-2008; PackageReference: MUA08A; Publisher: Altium Limited; PackageDescription: MINI SOIC, .118 x .118 x .034in, 8 Lead, .0256in Pitch; Supplier 1: Farnell; Supplier Part Number 1: 1007980; RoHS: N; PinCount: 8; Code_JEDEC: MO-187-AA; ComponentLink1Description: ADC082S101 Datasheet; ComponentLink1URL: http://www.national.com/ds/AD/ADC082S101.pdf; ComponentLink2Description: ADC082S101 Web Page; ComponentLink2URL: http://www.national.com/pf/AD/ADC082S101.html; ComponentLink3Description: MUA08A Package Page; ComponentLink3URL: http://www.national.com/packaging/folders/mua08a.html
footprint MUA08A_N (TSOP, 8-Leads, Body 3x3mm, Pitch 0.65mm, IPC Medium Density)
footprint MUA08A_L (TSOP, 8-Leads, Body 3x3mm, Pitch 0.65mm, IPC High Density)
footprint MUA08A_M (TSOP, 8-Leads, Body 3x3mm, Pitch 0.65mm, IPC Low Density)
pins: 1 ~{CS} (in), 2 VA (power), 3 GND (power), 4 IN2 (in), 5 IN1 (in), 6 DIN (in), 7 DOUT (out), 8 SCLK (in)

## ADC082S101CIMM/NOPB
designator U?
2 Channel, 500 kSPS to 1 MSPS, 8-Bit A/D Converter, 8-pin Mini SOIC, Pb-Free; PartNumber: ADC082S101CIMM/NOPB; Manufacturer: National Semiconductor; PackageTopMarking: ZXTT*X22C; PowerWise: Y; CompType: ADC IC; Published: 1-Mar-2010; DatasheetVersion: Feb-2010; PackageVersion: revF, Apr-2008; PackageReference: MUA08A; Publisher: Altium Limited; PackageDescription: MINI SOIC, .118 x .118 x .034in, 8 Lead, .0256in Pitch; Supplier 1: Digi-Key; Supplier Part Number 1: ADC082S101CIMMTR-ND; Supplier 2: Digi-Key; Supplier Part Number 2: ADC082S101CIMMCT-ND; Supplier 3: Digi-Key; Supplier Part Number 3: ADC082S101CIMMDKR-ND; Supplier 4: Farnell; Supplier Part Number 4: 1149928; RoHS: Y; PinCount: 8; Code_JEDEC: MO-187-AA; ComponentLink1Description: ADC082S101 Datasheet; ComponentLink1URL: http://www.national.com/ds/AD/ADC082S101.pdf; ComponentLink2Description: ADC082S101 Web Page; ComponentLink2URL: http://www.national.com/pf/AD/ADC082S101.html; ComponentLink3Description: MUA08A Package Page; ComponentLink3URL: http://www.national.com/packaging/folders/mua08a.html
footprint MUA08A_N (TSOP, 8-Leads, Body 3x3mm, Pitch 0.65mm, IPC Medium Density)
footprint MUA08A_L (TSOP, 8-Leads, Body 3x3mm, Pitch 0.65mm, IPC High Density)
footprint MUA08A_M (TSOP, 8-Leads, Body 3x3mm, Pitch 0.65mm, IPC Low Density)
pins: 1 ~{CS} (in), 2 VA (power), 3 GND (power), 4 IN2 (in), 5 IN1 (in), 6 DIN (in), 7 DOUT (out), 8 SCLK (in)

## ADC082S101CIMMX
designator U?
2 Channel, 500 kSPS to 1 MSPS, 8-Bit A/D Converter, 8-pin Mini SOIC; PartNumber: ADC082S101CIMMX; Manufacturer: National Semiconductor; PackageTopMarking: ZXTT*X22C; PowerWise: Y; CompType: ADC IC; Published: 1-Mar-2010; DatasheetVersion: Feb-2010; PackageVersion: revF, Apr-2008; PackageReference: MUA08A; Publisher: Altium Limited; PackageDescription: MINI SOIC, .118 x .118 x .034in, 8 Lead, .0256in Pitch; RoHS: N; PinCount: 8; Code_JEDEC: MO-187-AA; ComponentLink1Description: ADC082S101 Datasheet; ComponentLink1URL: http://www.national.com/ds/AD/ADC082S101.pdf; ComponentLink2Description: ADC082S101 Web Page; ComponentLink2URL: http://www.national.com/pf/AD/ADC082S101.html; ComponentLink3Description: MUA08A Package Page; ComponentLink3URL: http://www.national.com/packaging/folders/mua08a.html
footprint MUA08A_N (TSOP, 8-Leads, Body 3x3mm, Pitch 0.65mm, IPC Medium Density)
footprint MUA08A_L (TSOP, 8-Leads, Body 3x3mm, Pitch 0.65mm, IPC High Density)
footprint MUA08A_M (TSOP, 8-Leads, Body 3x3mm, Pitch 0.65mm, IPC Low Density)
pins: 1 ~{CS} (in), 2 VA (power), 3 GND (power), 4 IN2 (in), 5 IN1 (in), 6 DIN (in), 7 DOUT (out), 8 SCLK (in)

## ADC084S021CIMM
designator U?
4 Channel, 200 kSPS, 8-Bit A/D Converter, 10-pin MSOP; PartNumber: ADC084S021CIMM; Manufacturer: National Semiconductor; PackageTopMarking: ZXTT*X19C; PowerWise: Y; CompType: ADC IC; Published: 4-Dec-2008; DatasheetVersion: Aug-2008; PackageVersion: revB, Jul-2003; PackageReference: MUB10A; Publisher: Altium Limited; PackageDescription: Mini-SO, Molded, .118 x .118 x .034in Body, 10 Lead, .0197in Pitch; Supplier 1: Farnell; Supplier Part Number 1: 1007982; RoHS: N; PinCount: 10; Code_JEDEC: MO-187-BA; ComponentLink1Description: ADC084S021 Datasheet; ComponentLink1URL: http://www.national.com/ds/AD/ADC084S021.pdf; ComponentLink2Description: ADC084S021 Web Page; ComponentLink2URL: http://www.national.com/pf/AD/ADC084S021.html; ComponentLink3Description: MUB10A Package Page; ComponentLink3URL: http://www.national.com/packaging/folders/mub10a.html
footprint MUB10A_N (TSSOP, 10-Leads, Body 3x3mm, Pitch 0.5mm, IPC Medium Density)
footprint MUB10A_L (TSSOP, 10-Leads, Body 3x3mm, Pitch 0.5mm, IPC High Density)
footprint MUB10A_M (TSSOP, 10-Leads, Body 3x3mm, Pitch 0.5mm, IPC Low Density)
pins: 1 ~{CS} (in), 2 VA (power), 3 GND (power), 4 IN4 (in), 5 IN3 (in), 6 IN2 (in), 7 IN1 (in), 8 DIN (in), 9 DOUT (out), 10 SCLK (in)

## ADC084S021CIMM/NOPB
designator U?
4 Channel, 50 kSPS to 200 kSPS, 8-Bit A/D Converter, 10-pin Mini SOIC, Pb-Free; PartNumber: ADC084S021CIMM/NOPB; Manufacturer: National Semiconductor; PackageTopMarking: ZXTT*X19C; PowerWise: Y; CompType: ADC IC; Published: 1-Mar-2010; DatasheetVersion: Aug-2008; PackageVersion: revB, Jul-2003; PackageReference: MUB10A; Publisher: Altium Limited; PackageDescription: Mini-SO, Molded, .118 x .118 x .034in Body, 10 Lead, .0197in Pitch; Supplier 1: Digi-Key; Supplier Part Number 1: ADC084S021CIMMTR-ND; Supplier 2: Digi-Key; Supplier Part Number 2: ADC084S021CIMMCT-ND; Supplier 3: Digi-Key; Supplier Part Number 3: ADC084S021CIMMDKR-ND; Supplier 4: Farnell; Supplier Part Number 4: 1673976; RoHS: Y; PinCount: 10; Code_JEDEC: MO-187-BA; ComponentLink1Description: ADC084S021 Datasheet; ComponentLink1URL: http://www.national.com/ds/AD/ADC084S021.pdf; ComponentLink2Description: ADC084S021 Web Page; ComponentLink2URL: http://www.national.com/pf/AD/ADC084S021.html; ComponentLink3Description: MUB10A Package Page; ComponentLink3URL: http://www.national.com/packaging/folders/mub10a.html
footprint MUB10A_N (TSSOP, 10-Leads, Body 3x3mm, Pitch 0.5mm, IPC Medium Density)
footprint MUB10A_L (TSSOP, 10-Leads, Body 3x3mm, Pitch 0.5mm, IPC High Density)
footprint MUB10A_M (TSSOP, 10-Leads, Body 3x3mm, Pitch 0.5mm, IPC Low Density)
pins: 1 ~{CS} (in), 2 VA (power), 3 GND (power), 4 IN4 (in), 5 IN3 (in), 6 IN2 (in), 7 IN1 (in), 8 DIN (in), 9 DOUT (out), 10 SCLK (in)

## ADC084S021CIMMX
designator U?
4 Channel, 50 kSPS to 200 kSPS, 8-Bit A/D Converter, 10-pin Mini SOIC; PartNumber: ADC084S021CIMMX; Manufacturer: National Semiconductor; PackageTopMarking: ZXTT*X19C; PowerWise: Y; CompType: ADC IC; Published: 1-Mar-2010; DatasheetVersion: Aug-2008; PackageVersion: revB, Jul-2003; PackageReference: MUB10A; Publisher: Altium Limited; PackageDescription: Mini-SO, Molded, .118 x .118 x .034in Body, 10 Lead, .0197in Pitch; RoHS: N; PinCount: 10; Code_JEDEC: MO-187-BA; ComponentLink1Description: ADC084S021 Datasheet; ComponentLink1URL: http://www.national.com/ds/AD/ADC084S021.pdf; ComponentLink2Description: ADC084S021 Web Page; ComponentLink2URL: http://www.national.com/pf/AD/ADC084S021.html; ComponentLink3Description: MUB10A Package Page; ComponentLink3URL: http://www.national.com/packaging/folders/mub10a.html
footprint MUB10A_N (TSSOP, 10-Leads, Body 3x3mm, Pitch 0.5mm, IPC Medium Density)
footprint MUB10A_L (TSSOP, 10-Leads, Body 3x3mm, Pitch 0.5mm, IPC High Density)
footprint MUB10A_M (TSSOP, 10-Leads, Body 3x3mm, Pitch 0.5mm, IPC Low Density)
pins: 1 ~{CS} (in), 2 VA (power), 3 GND (power), 4 IN4 (in), 5 IN3 (in), 6 IN2 (in), 7 IN1 (in), 8 DIN (in), 9 DOUT (out), 10 SCLK (in)

## ADC084S051CIMM
designator U?
4 Channel, 500 kSPS, 8-Bit A/D Converter, 10-pin MSOP; PartNumber: ADC084S051CIMM; Manufacturer: National Semiconductor; PackageTopMarking: ZXTT*X10C; PowerWise: Y; CompType: ADC IC; Published: 4-Dec-2008; DatasheetVersion: Feb-2010; PackageVersion: revB, Jul-2003; PackageReference: MUB10A; Publisher: Altium Limited; PackageDescription: Mini-SO, Molded, .118 x .118 x .034in Body, 10 Lead, .0197in Pitch; Supplier 1: Farnell; Supplier Part Number 1: 1007983; RoHS: N; PinCount: 10; Code_JEDEC: MO-187-BA; ComponentLink1Description: ADC084S051 Datasheet; ComponentLink1URL: http://www.national.com/ds/AD/ADC084S051.pdf; ComponentLink2Description: ADC084S051 Web Page; ComponentLink2URL: http://www.national.com/pf/AD/ADC084S051.html; ComponentLink3Description: MUB10A Package Page; ComponentLink3URL: http://www.national.com/packaging/folders/mub10a.html
footprint MUB10A_N (TSSOP, 10-Leads, Body 3x3mm, Pitch 0.5mm, IPC Medium Density)
footprint MUB10A_L (TSSOP, 10-Leads, Body 3x3mm, Pitch 0.5mm, IPC High Density)
footprint MUB10A_M (TSSOP, 10-Leads, Body 3x3mm, Pitch 0.5mm, IPC Low Density)
pins: 1 ~{CS} (in), 2 VA (power), 3 GND (power), 4 IN4 (in), 5 IN3 (in), 6 IN2 (in), 7 IN1 (in), 8 DIN (in), 9 DOUT (out), 10 SCLK (in)

## ADC084S051CIMM/NOPB
designator U?
4 Channel, 200 kSPS to 500 kSPS, 8-Bit A/D Converter, 10-pin Mini SOIC, Pb-Free; PartNumber: ADC084S051CIMM/NOPB; Manufacturer: National Semiconductor; PackageTopMarking: ZXTT*X10C; PowerWise: Y; CompType: ADC IC; Published: 1-Mar-2010; DatasheetVersion: Feb-2010; PackageVersion: revB, Jul-2003; PackageReference: MUB10A; Publisher: Altium Limited; PackageDescription: Mini-SO, Molded, .118 x .118 x .034in Body, 10 Lead, .0197in Pitch; Supplier 1: Digi-Key; Supplier Part Number 1: ADC084S051CIMMTR-ND; Supplier 2: Digi-Key; Supplier Part Number 2: ADC084S051CIMMCT-ND; Supplier 3: Digi-Key; Supplier Part Number 3: ADC084S051CIMMDKR-ND; RoHS: Y; PinCount: 10; Code_JEDEC: MO-187-BA; ComponentLink1Description: ADC084S051 Datasheet; ComponentLink1URL: http://www.national.com/ds/AD/ADC084S051.pdf; ComponentLink2Description: ADC084S051 Web Page; ComponentLink2URL: http://www.national.com/pf/AD/ADC084S051.html; ComponentLink3Description: MUB10A Package Page; ComponentLink3URL: http://www.national.com/packaging/folders/mub10a.html
footprint MUB10A_N (TSSOP, 10-Leads, Body 3x3mm, Pitch 0.5mm, IPC Medium Density)
footprint MUB10A_L (TSSOP, 10-Leads, Body 3x3mm, Pitch 0.5mm, IPC High Density)
footprint MUB10A_M (TSSOP, 10-Leads, Body 3x3mm, Pitch 0.5mm, IPC Low Density)
pins: 1 ~{CS} (in), 2 VA (power), 3 GND (power), 4 IN4 (in), 5 IN3 (in), 6 IN2 (in), 7 IN1 (in), 8 DIN (in), 9 DOUT (out), 10 SCLK (in)

## ADC084S051CIMMX
designator U?
4 Channel, 200 kSPS to 500 kSPS, 8-Bit A/D Converter, 10-pin Mini SOIC; PartNumber: ADC084S051CIMMX; Manufacturer: National Semiconductor; PackageTopMarking: ZXTT*X10C; PowerWise: Y; CompType: ADC IC; Published: 1-Mar-2010; DatasheetVersion: Feb-2010; PackageVersion: revB, Jul-2003; PackageReference: MUB10A; Publisher: Altium Limited; PackageDescription: Mini-SO, Molded, .118 x .118 x .034in Body, 10 Lead, .0197in Pitch; RoHS: N; PinCount: 10; Code_JEDEC: MO-187-BA; ComponentLink1Description: ADC084S051 Datasheet; ComponentLink1URL: http://www.national.com/ds/AD/ADC084S051.pdf; ComponentLink2Description: ADC084S051 Web Page; ComponentLink2URL: http://www.national.com/pf/AD/ADC084S051.html; ComponentLink3Description: MUB10A Package Page; ComponentLink3URL: http://www.national.com/packaging/folders/mub10a.html
footprint MUB10A_N (TSSOP, 10-Leads, Body 3x3mm, Pitch 0.5mm, IPC Medium Density)
footprint MUB10A_L (TSSOP, 10-Leads, Body 3x3mm, Pitch 0.5mm, IPC High Density)
footprint MUB10A_M (TSSOP, 10-Leads, Body 3x3mm, Pitch 0.5mm, IPC Low Density)
pins: 1 ~{CS} (in), 2 VA (power), 3 GND (power), 4 IN4 (in), 5 IN3 (in), 6 IN2 (in), 7 IN1 (in), 8 DIN (in), 9 DOUT (out), 10 SCLK (in)